# EAGLE library part LTC2366_8 (library Mine)
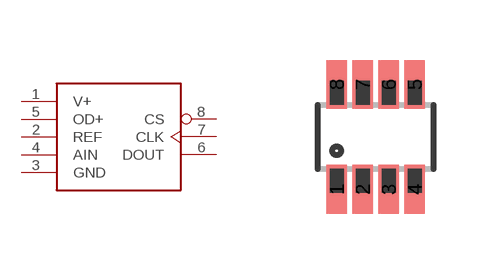
[diagram p2: symbol with the pads of TSOT23-8; footprint TSOT23-8]

Designator prefix -

## LTC2366_8  [TSOT23-8]
1  V+  pwr
2  REF  in
3  GND  pwr
4  AIN  in
5  OD+  pwr
6  DOUT  out
7  CLK  in
8  CS  in

## Footprint TSOT23-8 (pad centres in mm)
smd 0.52 x 1.22: 1 -0.975,-1.31; 2 -0.325,-1.31; 3 0.325,-1.31; 4 0.975,-1.31; 5 0.975,1.31; 6 0.325,1.31; 7 -0.325,1.31; 8 -0.975,1.31